# EAGLE library part MC33926 (library nxp)
H-Bridge 5A 5.0A trottle conrol H-bridge
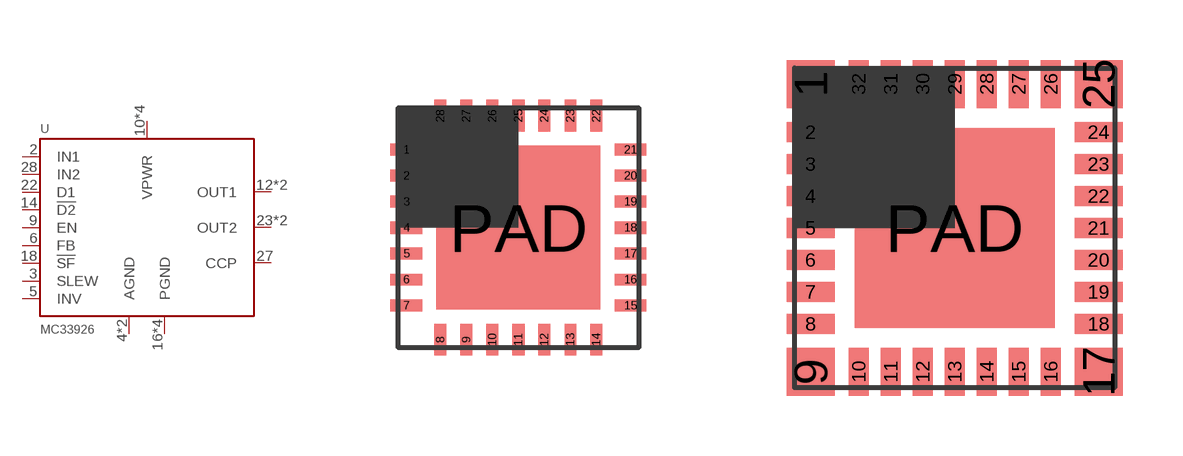
[diagram p1: symbol with the pads of HVQFN-28; footprints HVQFN-28, PQFN-32]

Designator prefix -

## MC33926ES  [HVQFN-28]
2  IN1  in
3  SLEW  in
4  AGND  pwr
5  INV  in
6  FB  out
9  EN  in
10  VPWR  pwr
11  VPWR  pwr
12  OUT1  out
13  OUT1  out
14  !D2!  in
16  PGND  pwr
17  PGND  pwr
18  !SF!  out
19  PGND  pwr
20  PGND  pwr
22  D1  in
23  OUT2  out
24  OUT2  out
25  VPWR  pwr
26  VPWR  pwr
27  CCP  out
28  IN2  in
PAD  AGND  pwr

## MC33926PNB  [PQFN-32]
1  IN2  in
2  IN1  in
3  SLEW  in
4  VPWR  pwr
5  AGND  pwr
6  VPWR  pwr
7  INV  in
8  FB  out
10  EN  in
11  VPWR  pwr
12  OUT1  out
13  OUT1  out
14  OUT1  out
15  OUT1  out
16  !D2!  in
18  PGND  pwr
19  PGND  pwr
20  PGND  pwr
21  !SF!  out
22  PGND  pwr
23  PGND  pwr
24  PGND  pwr
26  D1  in
27  OUT2  out
28  OUT2  out
29  OUT2  out
30  OUT2  out
31  VPWR  pwr
32  CCP  out
PAD  AGND  pwr

## Footprint HVQFN-28 (pad centres in mm)
smd 0.8 x 0.3: 1 -2.8,1.95; 2 -2.8,1.3; 3 -2.8,0.65; 4 -2.8,0; 5 -2.8,-0.65; 6 -2.8,-1.3; 7 -2.8,-1.95; 15 2.8,-1.95; 16 2.8,-1.3; 17 2.8,-0.65; 18 2.8,0; 19 2.8,0.65; 20 2.8,1.3; 21 2.8,1.95
smd 0.3 x 0.8: 8 -1.95,-2.8; 9 -1.3,-2.8; 10 -0.65,-2.8; 11 0,-2.8; 12 0.65,-2.8; 13 1.3,-2.8; 14 1.95,-2.8; 22 1.95,2.8; 23 1.3,2.8; 24 0.65,2.8; 25 0,2.8; 26 -0.65,2.8; 27 -1.3,2.8; 28 -1.95,2.8
smd 4.1 x 4.1: PAD 0,0

## Footprint PQFN-32 (pad centres in mm)
smd 1.2 x 1.2: 1 -3.6,3.6; 9 -3.6,-3.6; 17 3.6,-3.6; 25 3.6,3.6
smd 1.2 x 0.5: 2 -3.6,2.4; 3 -3.6,1.6; 4 -3.6,0.8; 5 -3.6,0; 6 -3.6,-0.8; 7 -3.6,-1.6; 8 -3.6,-2.4; 18 3.6,-2.4; 19 3.6,-1.6; 20 3.6,-0.8; 21 3.6,0; 22 3.6,0.8; 23 3.6,1.6; 24 3.6,2.4
smd 0.5 x 1.2: 10 -2.4,-3.6; 11 -1.6,-3.6; 12 -0.8,-3.6; 13 0,-3.6; 14 0.8,-3.6; 15 1.6,-3.6; 16 2.4,-3.6; 26 2.4,3.6; 27 1.6,3.6; 28 0.8,3.6; 29 0,3.6; 30 -0.8,3.6; 31 -1.6,3.6; 32 -2.4,3.6
smd 5 x 5: PAD 0,0